# Altium footprint library Switches.PcbLib: 28 footprints (part 1 of 2)
Each footprint in its own frame and in the unit in brackets; x right, y up, seen from the top. Pads: shape width x height; smd on the part's side, far side on the other; paste and mask are expansions set on the pad; w line width, h text height; cw(c..) or ccw(c..) is an arc to the next point about the centre after c.
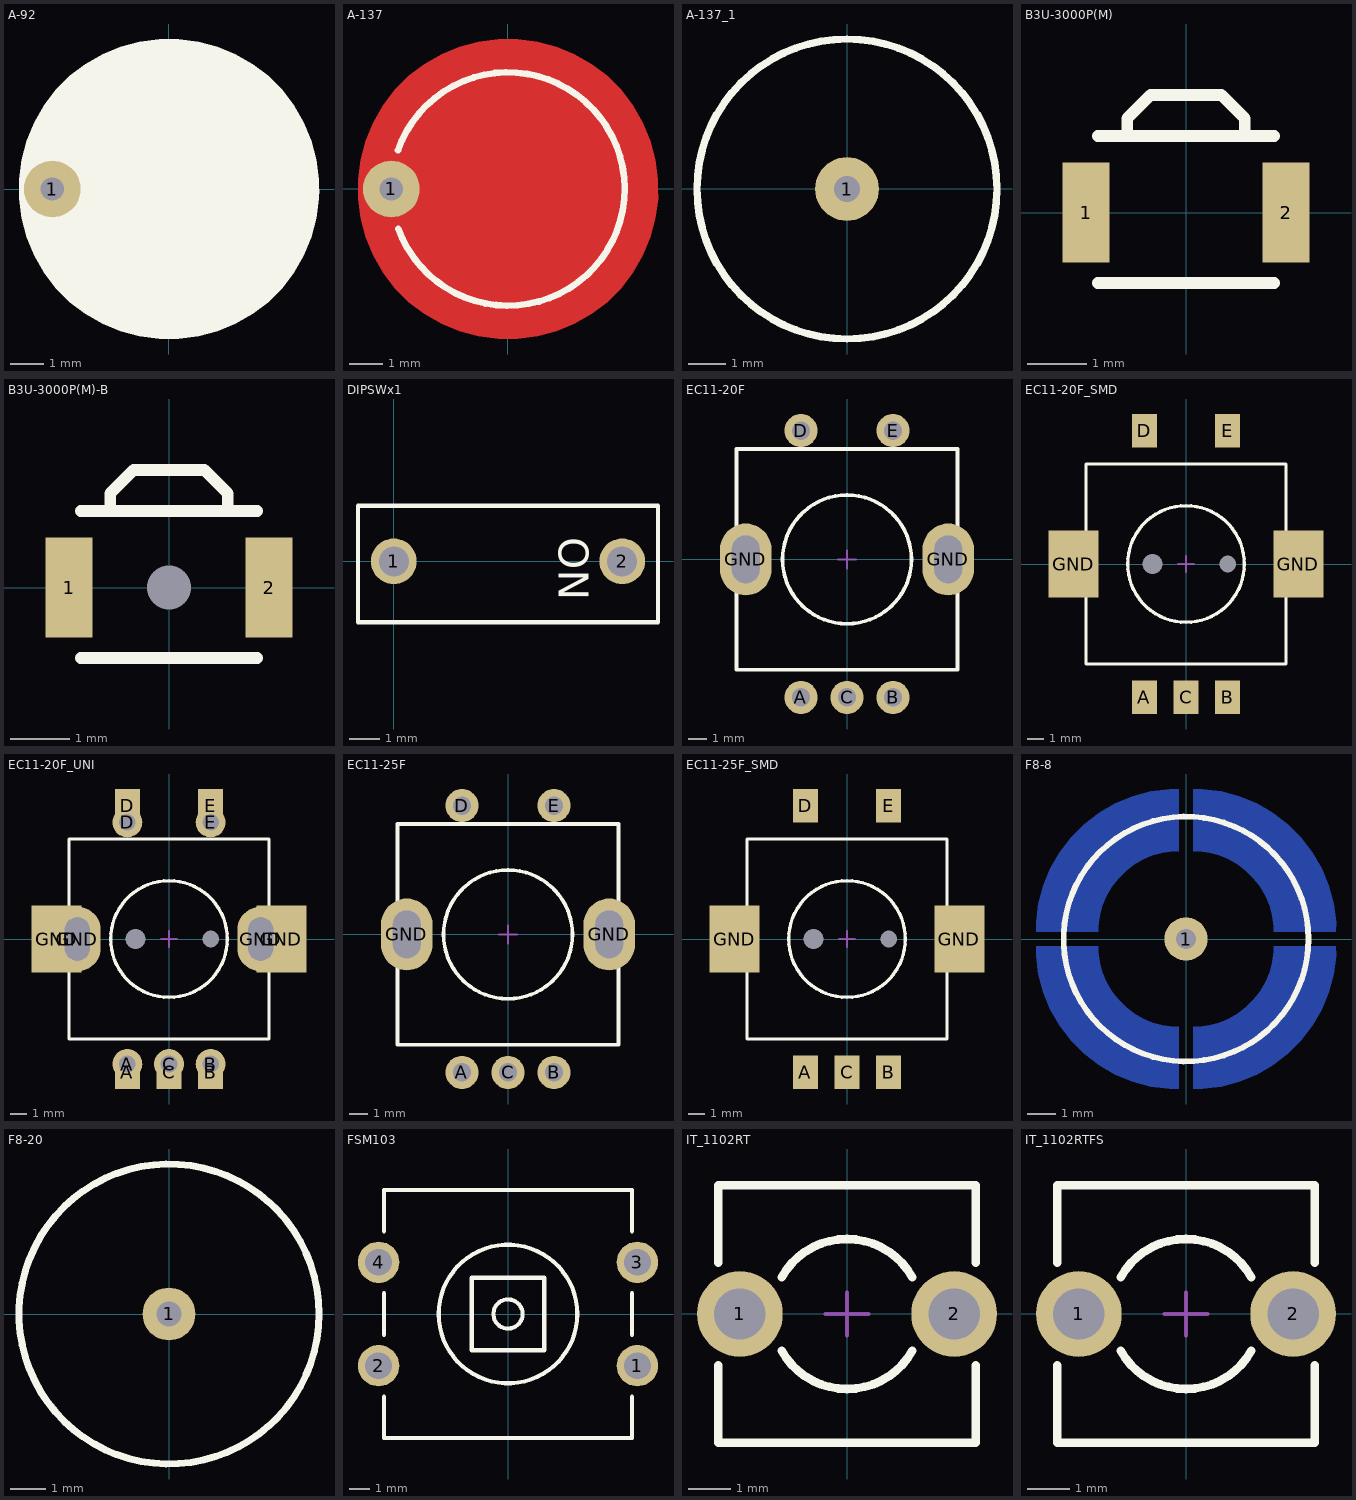
[diagram p0: the footprints below, top view; thin cyan lines are the x and y axes]

## A-92 [mm] "A-92 Sensor Spring"
height 16
pads (1):
  round 1.7 hole 0.7: 1(-3.5,0)
Top Overlay:
  pour cut-out: 0,4.5 0.295,4.5 0.88,4.423 1.45,4.27 1.995,4.045 2.505,3.75 2.973,3.39 3.39,2.973 3.75,2.505 4.045,1.995 4.27,1.45 4.423,0.88 4.5,0.295 4.5,0 4.5,-0.295 4.423,-0.88 4.27,-1.45 4.045,-1.995 3.75,-2.505 3.391,-2.973 2.973,-3.391 2.505,-3.75 1.995,-4.045 1.45,-4.27 0.88,-4.423 0.295,-4.5 0,-4.5 -0.295,-4.5 -0.88,-4.423 -1.45,-4.27 -1.995,-4.045 -2.505,-3.75 -2.973,-3.39 -3.39,-2.973 -3.75,-2.505 -4.045,-1.995 -4.27,-1.45 -4.423,-0.88 -4.5,-0.295 -4.5,0 -4.5,0.295 -4.423,0.88 -4.27,1.45 -4.045,1.995 -3.75,2.505 -3.391,2.973 -2.973,3.391 -2.505,3.75 -1.995,4.045 -1.45,4.27 -0.88,4.423 -0.295,4.5
  lines w0.2: -3.3,1.165 cw(c0,0) -3.289,-1.196
3D body "Sensor_Spring_A92.STEP": height 16.1, standoff -4.43, extent -6.193,-6.104 6.025,5.942

## A-137 [mm] "A-137 Sensor Spring"
height 4
pads (1):
  round 1.7 hole 0.7: 1(-3.5,0)
Top Layer:
  pour cut-out: 0,4.5 0.295,4.5 0.88,4.423 1.45,4.27 1.995,4.045 2.505,3.75 2.973,3.39 3.391,2.973 3.75,2.505 4.045,1.995 4.27,1.45 4.423,0.88 4.5,0.295 4.5,0 4.5,-0.295 4.423,-0.88 4.27,-1.45 4.045,-1.995 3.75,-2.505 3.391,-2.973 2.973,-3.391 2.505,-3.75 1.995,-4.045 1.45,-4.27 0.88,-4.423 0.295,-4.5 0,-4.5 -0.295,-4.5 -0.88,-4.423 -1.45,-4.27 -1.995,-4.045 -2.505,-3.75 -2.973,-3.39 -3.39,-2.973 -3.75,-2.505 -4.045,-1.995 -4.27,-1.45 -4.423,-0.88 -4.5,-0.295 -4.5,0 -4.5,0.295 -4.423,0.88 -4.27,1.45 -4.045,1.995 -3.75,2.505 -3.391,2.973 -2.973,3.391 -2.505,3.75 -1.995,4.045 -1.45,4.27 -0.88,4.423 -0.295,4.5
Top Overlay:
  lines w0.2: -3.3,1.165 cw(c0,0) -3.289,-1.196
3D body "Sensor_Spring_A137.STEP": height 4.72, standoff -2.03, extent -4.137,-4.164 4.183,4.073

## A-137_1 [mm]
height 6
pads (1):
  round 1.7 hole 0.7: 1(-0.011,-0.007)
Top Overlay:
  circle w0.2: c-0.011,-0.007 r4
3D body "Sensor_Spring_A137.STEP": height 7.22, standoff 0.47, extent -4.175,-4.126 4.145,4.112

## B3U-3000P(M) [mm] "Ultra-small Tactile Switch Without Ground Terminal"
height 1.2
pads (2):
  rect 0.8x1.7 smd: 1(-1.7,0) 2(1.7,0)
Top Overlay:
  lines w0.2: -1.5,-1.2 1.5,-1.2 ; -1.5,1.3 1.5,1.3 ; -1,1.3 -1,1.6 -0.6,2 0.6,2 1,1.6 1,1.3
3D body "b3u-3000p-b.stp": height 1.2, standoff -0.5, extent -2,-1.25 2,1.95

## B3U-3000P(M)-B [mm] "Ultra-small Tactile Switch Without Ground Terminal, with Boss"
height 1.2
pads (3):
  round 0 hole 0.75: 0(0,0)
  rect 0.8x1.7 smd: 1(-1.7,0) 2(1.7,0)
Top Overlay:
  lines w0.2: -1.5,-1.2 1.5,-1.2 ; -1.5,1.3 1.5,1.3 ; -1,1.3 -1,1.6 -0.6,2 0.6,2 1,1.6 1,1.3
3D body "b3u-3000p-b.stp": height 1.2, standoff -0.5, extent -2,-1.25 2,1.95

## DIPSWx1 [mil] "DIPSWx1"
height 43.31
pads (2):
  round 60 hole 39.37: 1(0,0) 2(300,0)
Top Overlay:
  lines w5.91: -47,-80 347,-80 347,73 -47,73 -47,-80
  text "ON" at 216.54,31.5 h39.37
3D body "DIP Blue 1-way.stp": height 263.78, standoff -78.74, extent -44.36,-78.73 345.41,70.48

## EC11-20F [mm]
height 24.5
pads (7):
  round 1.8 hole 1: A(-2.5,-7.5) B(2.5,-7.5) C(0,-7.5) D(-2.5,7) E(2.5,7)
  oval 2.8x3.9 hole 1.5 slot 2.6 at 90 deg: GND(-5.5,0) GND(5.5,0)
Top Overlay:
  circle w0.2: c0,0 r3.5
  lines w0.2: -6,-6 6,-6 6,6 -6,6 -6,-6
Mechanical 15:
  lines w0.1: -0.5,0 0.5,0 ; 0,-0.5 0,0.5
3D body "EC11-THT-20F-blue.step": height 24.5, standoff -3.5, extent -6.196,-7.7 6.196,7.2

## EC11-20F_SMD [mm]
height 24.5
pads (9):
  round 0 hole 1.2 unplated: 5(-2,0)
  round 0 hole 1 unplated: 5(2.5,0)
  rect 1.5x2 smd: A(-2.5,-8) B(2.5,-8) C(0,-8) D(-2.5,8) E(2.5,8)
  rect 3x4 smd: GND(-6.75,0) GND(6.75,0)
Top Overlay:
  circle w0.2: c0,0 r3.5
  lines w0.2: -6,-6 -6,6 6,6 6,-6 -6,-6
Mechanical 15:
  lines w0.1: -0.5,0 0.5,0 ; 0,-0.5 0,0.5
3D body "EC11-SMD-20F-blue.step": height 24.5, standoff -0.8, extent -7.5,-8.5 7.5,8.5

## EC11-20F_UNI [mm]
height 24.5
pads (16):
  round 0 hole 1.2 unplated: 5(-2,0)
  round 0 hole 1 unplated: 5(2.5,0)
  rect 1.5x2 smd: A(-2.5,-8) B(2.5,-8) C(0,-8) D(-2.5,8) E(2.5,8)
  round 1.8 hole 1: A(-2.5,-7.5) B(2.5,-7.5) C(0,-7.5) D(-2.5,7) E(2.5,7)
  rect 3x4 smd: GND(-6.75,0) GND(6.75,0)
  oval 2.8x3.9 hole 1.5 slot 2.6 at 90 deg: GND(-5.5,0) GND(5.5,0)
Top Overlay:
  circle w0.2: c0,0 r3.5
  circle w0.2: c0,0 r3.5
  lines w0.2: -6,-6 6,-6 ; -6,-6 -6,6 ; -6,-6 6,-6 ; -6,-6 -6,6 ; -6,6 6,6 ; -6,6 6,6 ; 6,-6 6,6 ; 6,-6 6,6
Mechanical 15:
  lines w0.1: -0.5,0 0.5,0 -0.5,0 ; 0,-0.5 0,0.5 0,-0.5
3D body "EC11-SMD-20F-blue.step": height 24.5, standoff -0.8, extent -7.5,-8.5 7.5,8.5
3D body "EC11-THT-20F-blue.step": height 24.5, standoff -3.5, extent -6.196,-7.7 6.196,7.2

## EC11-25F [mm]
height 29.5
pads (7):
  round 1.8 hole 1: A(-2.5,-7.5) B(2.5,-7.5) C(0,-7.5) D(-2.5,7) E(2.5,7)
  oval 2.8x3.9 hole 1.5 slot 2.6 at 90 deg: GND(-5.5,0) GND(5.5,0)
Top Overlay:
  circle w0.2: c0,0 r3.5
  lines w0.2: -6,-6 6,-6 6,6 -6,6 -6,-6
Mechanical 15:
  lines w0.1: -0.5,0 0.5,0 ; 0,-0.5 0,0.5
3D body "EC11-THT-25F-blue.step": height 29.5, standoff -3.5, extent -6.196,-7.7 6.196,7.2

## EC11-25F_SMD [mm]
height 29.5
pads (9):
  round 0 hole 1.2 unplated: 5(-2,0)
  round 0 hole 1 unplated: 5(2.5,0)
  rect 1.5x2 smd: A(-2.5,-8) B(2.5,-8) C(0,-8) D(-2.5,8) E(2.5,8)
  rect 3x4 smd: GND(-6.75,0) GND(6.75,0)
Top Overlay:
  circle w0.2: c0,0 r3.5
  lines w0.2: -6,-6 -6,6 6,6 6,-6 -6,-6
Mechanical 15:
  lines w0.1: -0.5,0 0.5,0 ; 0,-0.5 0,0.5
3D body "EC11-SMD-25F-blue.STEP": height 29.5, standoff -0.8, extent -7.5,-8.5 7.5,8.5

## F8-8 [mm] "Sensor_spring_button_8x8"
height 6
pads (1):
  round 1.5 hole 0.7: 1(0,0)
Bottom Layer:
  pour cut-out: -0.254,5.207 -0.254,3.048 -0.437,3.042 -0.799,2.994 -1.152,2.9 -1.49,2.76 -1.806,2.577 -2.096,2.355 -2.355,2.096 -2.577,1.806 -2.76,1.49 -2.9,1.152 -2.994,0.799 -3.042,0.437 -3.048,0.254 -5.207,0.254 -5.207,0.579 -5.122,1.222 -4.954,1.85 -4.706,2.449 -4.381,3.012 -3.986,3.527 -3.527,3.986 -3.012,4.381 -2.449,4.706 -1.85,4.954 -1.222,5.122 -0.579,5.207
  pour cut-out: 0.254,5.207 0.254,3.048 0.437,3.042 0.799,2.994 1.152,2.9 1.49,2.76 1.806,2.577 2.096,2.355 2.355,2.096 2.577,1.806 2.76,1.49 2.9,1.152 2.994,0.799 3.042,0.437 3.048,0.254 5.207,0.254 5.207,0.579 5.122,1.222 4.954,1.85 4.706,2.449 4.381,3.012 3.986,3.527 3.527,3.986 3.012,4.381 2.449,4.706 1.85,4.954 1.222,5.122 0.579,5.207
  pour cut-out: 0.254,-5.207 0.254,-3.048 0.437,-3.042 0.799,-2.994 1.152,-2.9 1.49,-2.76 1.806,-2.577 2.096,-2.355 2.355,-2.096 2.577,-1.806 2.76,-1.49 2.9,-1.152 2.994,-0.799 3.042,-0.437 3.048,-0.254 5.207,-0.254 5.207,-0.579 5.122,-1.222 4.954,-1.85 4.706,-2.449 4.381,-3.012 3.986,-3.527 3.527,-3.986 3.012,-4.381 2.449,-4.706 1.85,-4.954 1.222,-5.122 0.579,-5.207
  pour cut-out: -0.254,-5.207 -0.254,-3.048 -0.437,-3.042 -0.799,-2.994 -1.152,-2.9 -1.49,-2.76 -1.806,-2.577 -2.096,-2.355 -2.355,-2.096 -2.577,-1.806 -2.76,-1.49 -2.9,-1.152 -2.994,-0.799 -3.042,-0.437 -3.048,-0.254 -5.207,-0.254 -5.207,-0.579 -5.122,-1.222 -4.954,-1.85 -4.706,-2.449 -4.381,-3.012 -3.986,-3.527 -3.527,-3.986 -3.012,-4.381 -2.449,-4.706 -1.85,-4.954 -1.222,-5.122 -0.579,-5.207
Top Overlay:
  circle w0.2: c0,0 r4.25
3D body "Spring_8.5x8.5_compressed_bottom.STEP": height 2.03, standoff -2.71, extent -2.75,-2.748 2.749,2.749
3D body "Spring_8.5x8.5_compressed_top2.STEP": height 5, standoff 3.32, extent -4.219,-4.081 4.219,4.081

## F8-20 [mm] "Sensor_spring_button_8x20"
height 20
pads (1):
  round 1.5 hole 0.7: 1(0,0)
Top Overlay:
  circle w0.2: c0,0 r4.25
3D body "Spring_8.5x8.5_compressed_top2.STEP": height 17, standoff 15.32, extent -4.219,-4.081 4.219,4.081
3D body "Spring_8.5x8.5_compressed_bottom.STEP": height 2.03, standoff -2.71, extent -2.75,-2.748 2.749,2.749

## FSM103 [mm] "Тактовая кнопка 12x12mm (ф. TE Connectivity)"
height 7.3
pads (4):
  round 2 hole 1.3: 1(6.25,-2.5) 2(-6.25,-2.5) 3(6.25,2.5) 4(-6.25,2.5)
Top Overlay:
  circle w0.2: c0,0 r3.35
  circle w0.2: c0,0 r0.707
  lines w0.2: -6,-4 -6,-6 6,-6 6,-4 ; -6,-1 -6,1 ; -6,4 -6,6 6,6 6,4 ; 6,-1 6,1 ; -1.75,-1.75 1.75,-1.75 1.75,1.75 -1.75,1.75 -1.75,-1.75
3D body "FSM103A.STEP": height 7.32, standoff -2.83, extent -6.626,-6 6.626,6

## IT_1102RT [mm]
height 4.3
pads (2):
  round 2 hole 1.2: 1(-2.5,0) 2(2.5,0)
Top Overlay:
  lines w0.2: -3,-1.2 -3,-3 3,-3 3,-1.2 ; -3,1.2 -3,3 3,3 3,1.2 ; -1.525,-0.858 ccw(c0,0) 0,-1.75 ccw(c0,0) 1.525,-0.858 ; -1.525,0.858 cw(c0,0) 0,1.75 cw(c0,0) 1.525,0.858
Mechanical 15:
  lines w0.1: -0.5,0 0.5,0 ; 0,-0.5 0,0.5
3D body "tact_switch_6x6mm_common.stp": height 4.5, standoff 0.2, extent -3,-3 3,3
3D body: height 1, standoff -3, extent -2.9,-0.15 -2.1,0.15
3D body: height 1, standoff -3, extent 2.1,-0.15 2.9,0.15

## IT_1102RTFS [mm]
height 12
pads (2):
  round 2 hole 1.2: 1(-2.5,0) 2(2.5,0)
Top Overlay:
  lines w0.2: -3,-1.2 -3,-3 3,-3 3,-1.2 ; -3,1.2 -3,3 3,3 3,1.2 ; -1.525,-0.858 ccw(c0,0) 0,-1.75 ccw(c0,0) 1.525,-0.858 ; -1.525,0.858 cw(c0,0) 0,1.75 cw(c0,0) 1.525,0.858
Mechanical 15:
  lines w0.1: -0.5,0 0.5,0 ; 0,-0.5 0,0.5
3D body "tact_switch_6x6mm_common.stp": height 4.5, standoff 0.2, extent -3,-3 3,3
3D body: height 1, standoff -3, extent -2.9,-0.15 -2.1,0.15
3D body: height 1, standoff -3, extent 2.1,-0.15 2.9,0.15
3D body "KLS_part_12mm.stp": height 12, standoff 4.3, extent -1.756,-1.75 1.744,1.75